# Altium integrated library GRM219R61C226ME15L.IntLib: 1 symbol
Pins are listed as number, name and electrical type; pins without a type are passive.

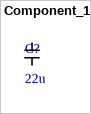
[diagram p0: symbol Component_1]

## Component_1
designator C?, comment 22u
Buying URL:: https://uk.farnell.com/murata/grm219r61c226me15l/cap-22-f-16v-20-x5r-0805/dp/2611932?st=22%200805%20capsitor
footprint *CAPC2012X135N
pins: 1, 2